# EAGLE library part STM32F405RG (library dawidkulpa_dev)
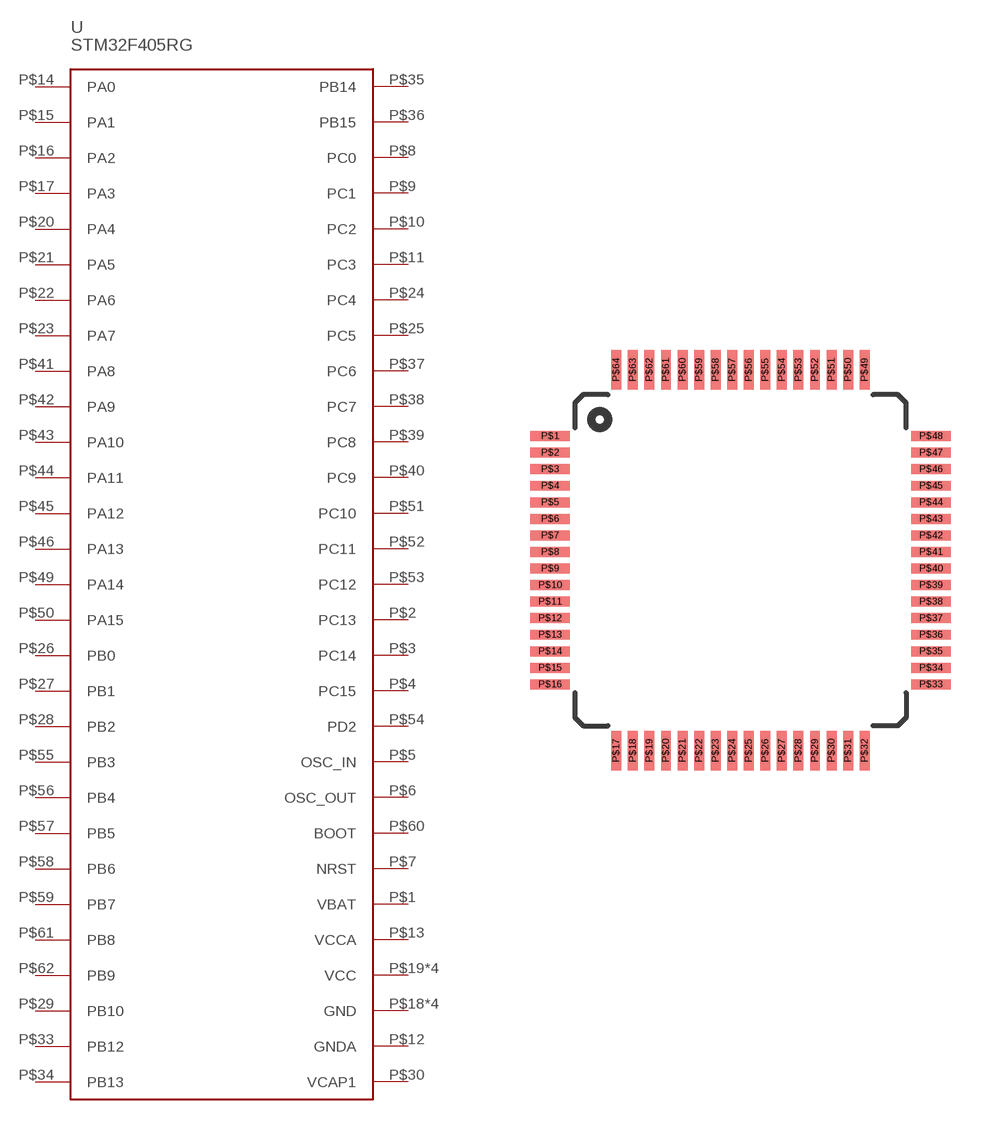
[diagram p13: symbol with the pads of LQFP64; footprint LQFP64]

Designator prefix -

## STM32F405RG  [LQFP64]
P$1  VBAT
P$2  PC13
P$3  PC14
P$4  PC15
P$5  OSC_IN
P$6  OSC_OUT
P$7  NRST
P$8  PC0
P$9  PC1
P$10  PC2
P$11  PC3
P$12  GNDA
P$13  VCCA
P$14  PA0
P$15  PA1
P$16  PA2
P$17  PA3
P$18  GND
P$19  VCC
P$20  PA4
P$21  PA5
P$22  PA6
P$23  PA7
P$24  PC4
P$25  PC5
P$26  PB0
P$27  PB1
P$28  PB2
P$29  PB10
P$30  VCAP1
P$31  GND
P$32  VCC
P$33  PB12
P$34  PB13
P$35  PB14
P$36  PB15
P$37  PC6
P$38  PC7
P$39  PC8
P$40  PC9
P$41  PA8
P$42  PA9
P$43  PA10
P$44  PA11
P$45  PA12
P$46  PA13
P$47  GND
P$48  VCC
P$49  PA14
P$50  PA15
P$51  PC10
P$52  PC11
P$53  PC12
P$54  PD2
P$55  PB3
P$56  PB4
P$57  PB5
P$58  PB6
P$59  PB7
P$60  BOOT
P$61  PB8
P$62  PB9
P$63  GND
P$64  VCC

## Footprint LQFP64 (pad centres in mm)
smd 1.2 x 0.3: P$1 -5.75,3.75; P$2 -5.75,3.25; P$3 -5.75,2.75; P$4 -5.75,2.25; P$5 -5.75,1.75; P$6 -5.75,1.25; P$7 -5.75,0.75; P$8 -5.75,0.25; P$9 -5.75,-0.25; P$10 -5.75,-0.75; P$11 -5.75,-1.25; P$12 -5.75,-1.75; P$13 -5.75,-2.25; P$14 -5.75,-2.75; P$15 -5.75,-3.25; P$16 -5.75,-3.75; P$33 5.75,-3.75; P$34 5.75,-3.25; P$35 5.75,-2.75; P$36 5.75,-2.25; P$37 5.75,-1.75; P$38 5.75,-1.25; P$39 5.75,-0.75; P$40 5.75,-0.25; P$41 5.75,0.25; P$42 5.75,0.75; P$43 5.75,1.25; P$44 5.75,1.75; P$45 5.75,2.25; P$46 5.75,2.75; P$47 5.75,3.25; P$48 5.75,3.75
smd 0.3 x 1.2: P$17 -3.75,-5.75; P$18 -3.25,-5.75; P$19 -2.75,-5.75; P$20 -2.25,-5.75; P$21 -1.75,-5.75; P$22 -1.25,-5.75; P$23 -0.75,-5.75; P$24 -0.25,-5.75; P$25 0.25,-5.75; P$26 0.75,-5.75; P$27 1.25,-5.75; P$28 1.75,-5.75; P$29 2.25,-5.75; P$30 2.75,-5.75; P$31 3.25,-5.75; P$32 3.75,-5.75; P$49 3.75,5.75; P$50 3.25,5.75; P$51 2.75,5.75; P$52 2.25,5.75; P$53 1.75,5.75; P$54 1.25,5.75; P$55 0.75,5.75; P$56 0.25,5.75; P$57 -0.25,5.75; P$58 -0.75,5.75; P$59 -1.25,5.75; P$60 -1.75,5.75; P$61 -2.25,5.75; P$62 -2.75,5.75; P$63 -3.25,5.75; P$64 -3.75,5.75